# EAGLE library part BQ24155RGYT (library Battery Chargers)
Charger IC Lithium Ion/Polymer 14-VQFN (3.5x3.5) Manufacturer's datasheet <https://www.ti.com/lit/ds/symlink/bq24155.pdf?HQS=TI-null-null-digikeymode-df-pf-null-wwe&ts=1594275864252>
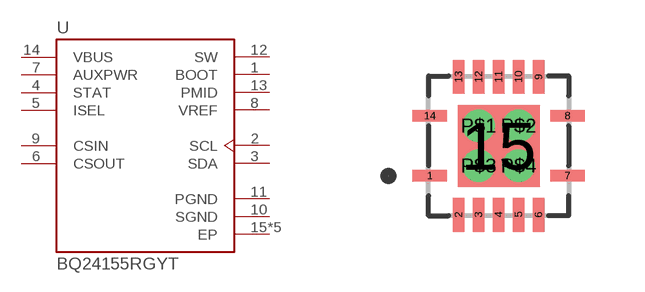
[diagram p8: symbol with the pads of BQ24155RGYT; footprint BQ24155RGYT]

Designator prefix U

## BQ24155RGYT (CREATED_BY: PCBLayout.com; DIGIKEY_PART_NUMBER: 296-BQ24155RGYTCT-ND; MANUFACTURER: Texas Instruments; MPN: BQ24155RGYT; PACKAGE: 14-VQFN)  [BQ24155RGYT]
1  BOOT  out
2  SCL  in
3  SDA
4  STAT
5  ISEL  in
6  CSOUT  in
7  AUXPWR  in
8  VREF  out
9  CSIN  in
10  SGND  pwr
11  PGND  pwr
12  SW  out
13  PMID  out
14  VBUS  in
15  EP  pwr
P$1  EP  pwr
P$2  EP  pwr
P$3  EP  pwr
P$4  EP  pwr

## Footprint BQ24155RGYT (pad centres in mm)
smd 0.85 x 0.28: 1 -1.725,-0.75; 7 1.725,-0.75; 8 1.725,0.75; 14 -1.725,0.75
smd 0.28 x 0.85: 2 -1,-1.725; 3 -0.5,-1.725; 4 0,-1.725; 5 0.5,-1.725; 6 1,-1.725; 9 1,1.725; 10 0.5,1.725; 11 0,1.725; 12 -0.5,1.725; 13 -1,1.725
smd 2.05 x 2.05: 15 0,0
drill 0.3 pad 0.5: P$1 -0.5,0.5; P$2 0.5,0.5; P$3 -0.5,-0.5; P$4 0.5,-0.5